# Altium schematic symbol library 750311771.SchLib: 1 symbol
Pins are listed as number, name and electrical type; pins without a type are passive.

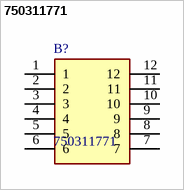
[diagram p0: symbol 750311771]

## 750311771
designator B?
Power Transformers WE-FB Flyback 500uH 3A 15V; Manufacturer_Name: Wurth Elektronik; Geometry.Height: 13.69mm; Manufacturer_Part_Number: 750311771; Mouser Part Number: 710-750311771; Mouser Price/Stock: https://www.mouser.co.uk/ProductDetail/Wurth-Elektronik/750311771?qs=J4sk5G6CMwYUnCXRsU%2FeCw%3D%3D; Arrow Part Number: *; Arrow Price/Stock: *; Mouser Testing Part Number: *; Mouser Testing Price/Stock: *; Datasheet Link: https://katalog.we-online.com/pbs/datasheet/750311771.pdf
footprint 750311771
pins: 1, 2, 3, 4, 5, 6, 7, 8, 9, 10, 11, 12